# Altium schematic symbol library CAPACITOR_TAN_SMD.SchLib: 1 symbol
Pins are listed as number, name and electrical type; pins without a type are passive.

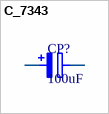
[diagram p0: symbol C_7343]

## C_7343
designator CP?, comment 100uF
7343 Tantalum Capacitor.
footprint C_7343
pins: 1, 2